# Altium schematic symbol library LM1117DT-1.SchLib: 1 symbol
Pins are listed as number, name and electrical type; pins without a type are passive.

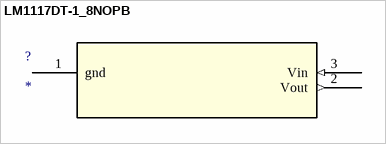
[diagram p0: symbol LM1117DT-1_8NOPB]

## LM1117DT-1_8NOPB
designator ?
Imported; Manufacturer_Part_Number: LM1117DT-18; Vendor: National Semiconductor; C: Copyright (C) 2015 Accelerated Designs. All rights reserved; Copyright: Copyright (C) 2015 Accelerated Designs. All rights reserved; RefDes: RefDes; Type: DEV; Value: Value
footprint TD03B
pins: 1 gnd (power), 2 Vout (out), 3 Vin (in)